# EAGLE library part FEATHER (library waterduck)
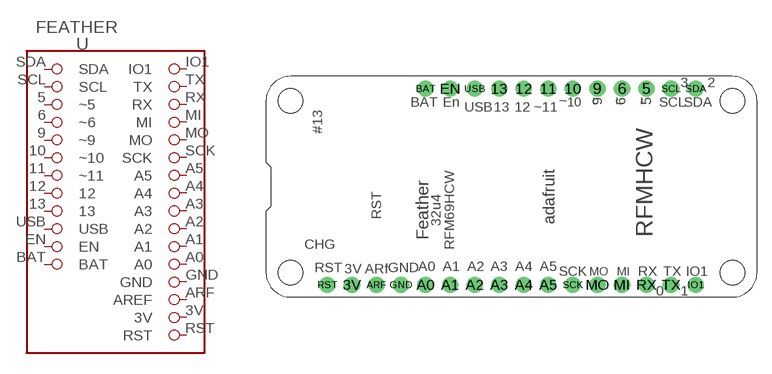
[diagram p0: symbol with the pads of FEATHER; footprint FEATHER]

Designator prefix U

## FEATHER  [FEATHER]
3V  3V  pas
5  ~5  pas
6  ~6  pas
9  ~9  pas
10  ~10  pas
11  ~11  pas
12  12  pas
13  13  pas
A0  A0  pas
A1  A1  pas
A2  A2  pas
A3  A3  pas
A4  A4  pas
A5  A5  pas
ARF  AREF  pas
BAT  BAT  pas
EN  EN  pas
GND  GND  pas
IO1  IO1  pas
MI  MI  pas
MO  MO  pas
RST  RST  pas
RX  RX  pas
SCK  SCK  pas
SCL  SCL  pas
SDA  SDA  pas
TX  TX  pas
USB  USB  pas

## Footprint FEATHER (pad centres in mm)
drill 1 pad 1.676: 3V 8.89,1.27; 5 39.37,21.59; 6 36.83,21.59; 9 34.29,21.59; 10 31.75,21.59; 11 29.21,21.59; 12 26.67,21.59; 13 24.13,21.59; A0 16.51,1.27; A1 19.05,1.27; A2 21.59,1.27; A3 24.13,1.27; A4 26.67,1.27; A5 29.21,1.27; ARF 11.43,1.27; BAT 16.51,21.59; EN 19.05,21.59; GND 13.97,1.27; IO1 44.45,1.27; MI 36.83,1.27; MO 34.29,1.27; RST 6.35,1.27; RX 39.37,1.27; SCK 31.75,1.27; SCL 41.91,21.59; SDA 44.45,21.59; TX 41.91,1.27; USB 21.59,21.59
hole 2.54 at 48.26,20.32
hole 2.54 at 48.26,2.54
hole 2.54 at 2.54,2.54
hole 2.54 at 2.54,20.32